# EAGLE library part A4957 (library heph_custom_comp)
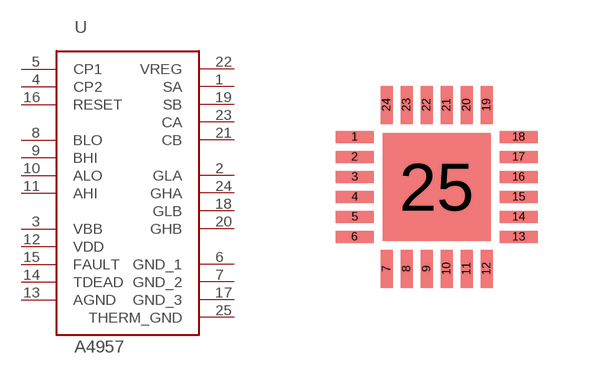
[diagram p0: symbol with the pads of 24-WFQFN; footprint 24-WFQFN]

Designator prefix -

## A4957  [24-WFQFN]
1  SA
2  GLA
3  VBB
4  CP2
5  CP1
6  GND_1
7  GND_2
8  BLO
9  BHI
10  ALO
11  AHI
12  VDD
13  AGND
14  TDEAD
15  FAULT
16  RESET
17  GND_3
18  GLB
19  SB
20  GHB
21  CB
22  VREG
23  CA
24  GHA
25  THERM_GND

## Footprint 24-WFQFN (pad centres in mm)
smd 0.95 x 0.3: 1 -2.05,1.25; 2 -2.05,0.75; 3 -2.05,0.25; 4 -2.05,-0.25; 5 -2.05,-0.75; 6 -2.05,-1.25; 13 2.05,-1.25; 14 2.05,-0.75; 15 2.05,-0.25; 16 2.05,0.25; 17 2.05,0.75; 18 2.05,1.25
smd 0.3 x 0.95: 7 -1.25,-2.05; 8 -0.75,-2.05; 9 -0.25,-2.05; 10 0.25,-2.05; 11 0.75,-2.05; 12 1.25,-2.05; 19 1.25,2.05; 20 0.75,2.05; 21 0.25,2.05; 22 -0.25,2.05; 23 -0.75,2.05; 24 -1.25,2.05
smd 2.7 x 2.7: 25 0,0